# EAGLE library part SN74HC161 (library StealthEE v8)
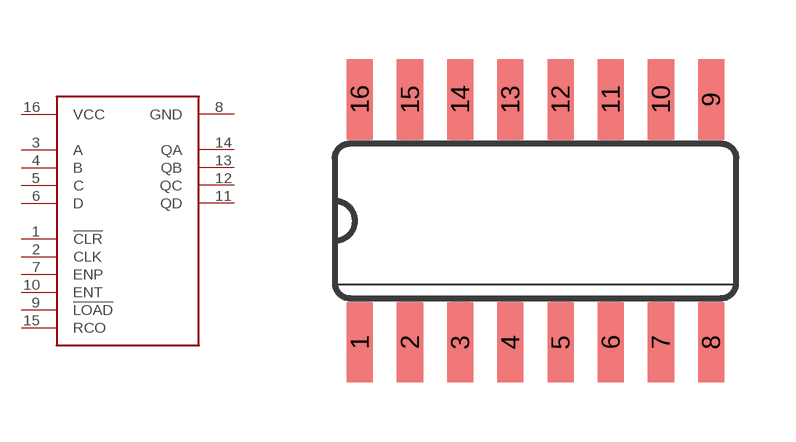
[diagram p1: symbol with the pads of SO16; footprint SO16]

Designator prefix -

## SN74HC161  [SO16]
1  !CLR
2  CLK
3  A
4  B
5  C
6  D
7  ENP
8  GND
9  !LOAD
10  ENT
11  QD
12  QC
13  QB
14  QA
15  RCO
16  VCC

## Footprint SO16 (pad centres in mm)
Small Outline package 150 mil
smd 0.66 x 2.032: 1 -4.445,-3.073; 2 -3.175,-3.073; 3 -1.905,-3.073; 4 -0.635,-3.073; 5 0.635,-3.073; 6 1.905,-3.073; 7 3.175,-3.073; 8 4.445,-3.073; 9 4.445,3.073; 10 3.175,3.073; 11 1.905,3.073; 12 0.635,3.073; 13 -0.635,3.073; 14 -1.905,3.073; 15 -3.175,3.073; 16 -4.445,3.073